# Altium schematic symbol library IC.SchLib: 3 symbols
Pins are listed as number, name and electrical type; pins without a type are passive.

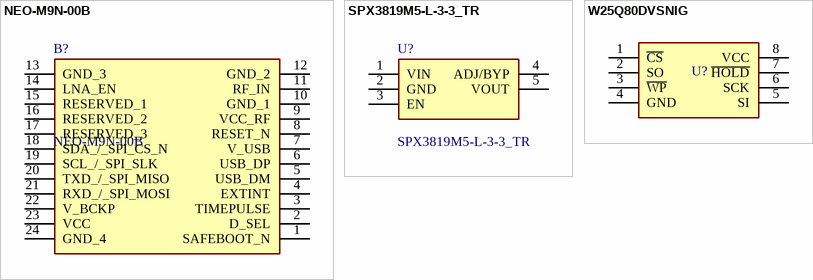
[diagram p0: symbols NEO-M9N-00B to W25Q80DVSNIG]

## NEO-M9N-00B
designator B?
GNSS module, Flash, TCXO, SAW, LNA, LCC, 12x16 mm Professional Grade; Manufacturer: u-blox; Supplier 2: Digi-Key; Manufacturer Part Number: NEO-M9N-00B; RoHS: Yes; Category: RF Receivers, Transceivers; Stock 1: 3456; Pricing 1: 1=27, 10=23,92, 50=19,61, 100=15,6801 (USD); RoHS Compliant: Yes; Supplier Part Number 2: 672-NEO-M9N-00BCT-ND; Supplier 1: Mouser; Supplier Part Number 1: 377-NEO-M9N-00B
footprint NEO-M9N-00B-MFG
pins: 1 SAFEBOOT_N, 2 D_SEL, 3 TIMEPULSE, 4 EXTINT, 5 USB_DM, 6 USB_DP, 7 V_USB, 8 RESET_N, 9 VCC_RF, 10 GND_1, 11 RF_IN, 12 GND_2, 13 GND_3, 14 LNA_EN, 15 RESERVED_1, 16 RESERVED_2, 17 RESERVED_3, 18 SDA_/_SPI_CS_N, 19 SCL_/_SPI_SLK, 20 TXD_/_SPI_MISO, 21 RXD_/_SPI_MOSI, 22 V_BCKP, 23 VCC, 24 GND_4

## SPX3819M5-L-3-3_TR
designator U?
IC REG LDO 3.3V 0.5A SOT23-5; Manufacturer: Exar; Manufacturer Part Number: SPX3819M5-L-3-3/TR; Output Current: 500mA; Max Supply Voltage: 16V; Number of Regulators: 1; Quiescent Current: 3uA; Output Type: Fixed; Dropout Voltage: 340mV; Min Input Voltage: 2.5V; Max Output current: 100mA; Polarity: Positive; Accuracy: 1%; RoHS: Yes; Category: Voltage Regulators - Linear; Stock 1: 360; Pricing 1: 50=0,362, 100=0,352, 250=0,308, 500=0,261 (GBP); Mounting Technology: Surface Mount; Case/Package: SOT-23-5; Pins: 5; Min Operating Temperature: -40°C; Max Operating Temperature: 125°C; Packaging: Tape and Reel; Min Output Voltage: 3.3V; Number of Outputs: 1; Output Voltage: 3.3V; Length: 2.9mm; Width: 1.6mm; Height: 1.3mm; Radiation Hardening: No; RoHS Compliant: Yes; Lead Free: Lead Free; ComponentLink1URL: https://datasheet.ciiva.com/6594/spx3819-ds-r202-052014-6594086.pdf?src-supplier=Digi-Key; ComponentLink1Description: https://datasheet.ciiva.com/6594/spx3819-ds-r202-052014-6594086.pdf?src-supplier=Digi-Key; ComponentLink2URL: https://datasheet.ciiva.com/16291/spx3819-series-16291548.pdf?src-supplier=Future+Electronics; ComponentLink2Description: https://datasheet.ciiva.com/16291/spx3819-series-16291548.pdf?src-supplier=Future+Electronics; Supplier 1: Mouser; Supplier Part Number 1: 701-SPX3819M5-L-33TR; Supplier 2: Digi-Key; Supplier Part Number 2: 1016-1873-1-ND; Supplier 3: Digi-Key; Supplier Part Number 3: 1016-1873--ND
footprint SPX3819M5-L-3-3_TR
pins: 1 VIN, 2 GND, 3 EN, 4 ADJ/BYP, 5 VOUT

## W25Q80DVSNIG
designator U?  (value not drawn)
IC FLASH 8MBIT 104MHZ 8SOIC; Manufacturer: Winbond; Memory Format: Non-Volatile,FLASH; Memory Size: 8Mb; Supplier 2: Digi-Key; Manufacturer Part Number: W25Q80DVSNIG; RoHS: Yes; Category: Flash; Stock 1: 106019; Pricing 1: 1=0,51, 10=0,5, 25=0,464, 50=0,4616, 100=0,4099, 250=0,40472, 500=0,39858, 1000=0,38794, 5000=0,34874 (USD); Mounting Technology: Surface Mount; Case/Package: SOIC; Min Operating Temperature: -40°C; Max Operating Temperature: 85°C; Packaging: Rail/Tube; Frequency: 104MHz; Series: SpiFlash®; RoHS Compliant: Yes; ComponentLink1URL: http://www.winbond.com/resource-files/w25q80dv%20dl_revh_10022015.pdf?src-supplier=Digi-Key; ComponentLink1Description: http://www.winbond.com/resource-files/w25q80dv%20dl_revh_10022015.pdf?src-supplier=Digi-Key; Supplier Part Number 2: W25Q80DVSNIG-ND; Supplier 1: Mouser; Supplier Part Number 1: 454-W25Q80DVSNIG
footprint SOIC-8
pins: 1 ~{CS}, 2 SO, 3 ~{WP}, 4 GND, 5 SI, 6 SCK, 7 ~{HOLD}, 8 VCC